# Altium footprint library BHI360.PcbLib: 3 footprints
Each footprint in its own frame and in the unit in brackets; x right, y up, seen from the top. Pads: shape width x height; smd on the part's side, far side on the other; paste and mask are expansions set on the pad; w line width, h text height; cw(c..) or ccw(c..) is an arc to the next point about the centre after c.
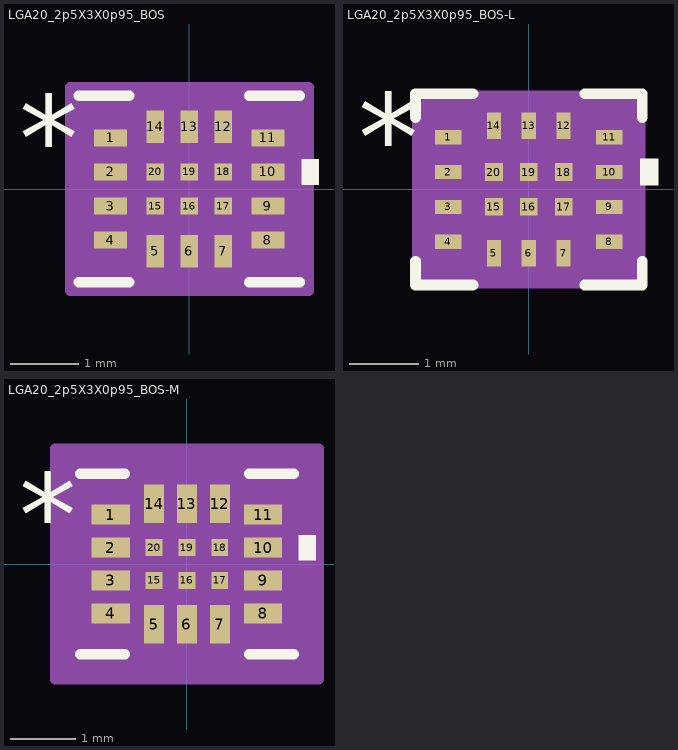
[diagram p0: the footprints below, top view; thin cyan lines are the x and y axes]

## LGA20_2p5X3X0p95_BOS [mil]
pads (20):
  rect 19x10 smd paste+0 mask+0: 1(-45.5,29.53) 2(-45.5,9.84) 3(-45.5,-9.84) 4(-45.5,-29.53) 8(45.5,-29.53) 9(45.5,-9.84) 10(45.5,9.84) 11(45.5,29.53)
  rect 10x19 smd paste+0 mask+0: 5(-19.68,-36) 6(0,-36) 7(19.68,-36) 12(19.68,36) 13(0,36) 14(-19.68,36)
  rect 10x10 smd paste+0 mask+0: 15(-19.68,-9.84) 16(0,-9.84) 17(19.69,-9.84) 18(19.68,9.84) 19(0,9.84) 20(-19.68,9.84)
Top Overlay:
  region: 65,17.34 75,17.34 75,2.34 65,2.34
  lines w6: -64,-54 -34.65,-54 ; -64,54 -34.65,54 ; 34.65,-54 64,-54 ; 34.65,54 64,54
  text "*" at -98.5,4.53 h50
Mechanical 13:
  lines w1: -59,-1 -9,49 ; -59,-49 59,-49 59,49 -59,49 -59,-49 ; -59,-34.53 -59,-24.53 -55,-24.53 -55,-34.53 -59,-34.53 ; -59,-14.84 -59,-4.84 -55,-4.84 -55,-14.84 -59,-14.84 ; -59,4.84 -59,14.84 -55,14.84 -55,4.84 -59,4.84 ; -59,24.53 -59,34.53 -55,34.53 -55,24.53 -59,24.53 ; -24.68,-49 -14.69,-49 -14.69,-45.5 -24.68,-45.5 -24.68,-49 ; -24.68,45.5 -14.69,45.5 -14.69,49 -24.68,49 -24.68,45.5 ; -5,-49 5,-49 5,-45.5 -5,-45.5 -5,-49 ; -5,45.5 5,45.5 5,49 -5,49 -5,45.5 ; 14.69,-49 24.68,-49 24.68,-45.5 14.69,-45.5 14.69,-49 ; 14.69,45.5 24.68,45.5 24.68,49 14.69,49 14.69,45.5 ; 55,-34.53 59,-34.53 59,-24.53 55,-24.53 55,-34.53 ; 55,-14.84 59,-14.84 59,-4.84 55,-4.84 55,-14.84 ; 55,4.84 59,4.84 59,14.84 55,14.84 55,4.84 ; 55,24.53 59,24.53 59,34.53 55,34.53 55,24.53
  text "*" at -17.5,4.53 h50
Mechanical 15:
  region: -34.69,-59 -69,-59 -69,-44.53 -69,44.53 -69,59 -34.69,59 34.69,59 69,59 69,44.53 69,-44.53 69,-59 34.69,-59
  lines w6: -69,-44.53 -69,-59 -34.69,-59 ; -69,-44.53 -69,-44.53 ; -69,-44.53 -69,44.53 ; -69,44.53 -69,44.53 ; -69,44.53 -69,59 -34.69,59 ; -34.69,-59 34.69,-59 ; -34.69,-59 -34.69,-59 ; -34.69,59 -34.69,59 ; -34.69,59 34.69,59 ; 34.69,-59 69,-59 69,-44.53 ; 34.69,-59 34.69,-59 ; 34.69,59 34.69,59 ; 34.69,59 69,59 69,44.53 ; 69,-44.53 69,44.53 ; 69,-44.53 69,-44.53 ; 69,44.53 69,44.53
3D body "LGA20_2p5X3X0p95_BOS.step": height 39.09, standoff 0, extent -59.02,-49.02 59.02,49.02

## LGA20_2p5X3X0p95_BOS-L [mil]
pads (20):
  rect 15x8 smd paste+0 mask+0: 1(-45.5,29.53) 2(-45.5,9.84) 3(-45.5,-9.84) 4(-45.5,-29.53) 8(45.5,-29.53) 9(45.5,-9.84) 10(45.5,9.84) 11(45.5,29.53)
  rect 8x15 smd paste+0 mask+0: 5(-19.68,-36) 6(0,-36) 7(19.68,-36) 12(19.68,36) 13(0,36) 14(-19.68,36)
  rect 10x10 smd paste+0 mask+0: 15(-19.68,-9.84) 16(0,-9.84) 17(19.69,-9.84) 18(19.68,9.84) 19(0,9.84) 20(-19.68,9.84)
Top Overlay:
  region: 63,17.34 73,17.34 73,2.34 63,2.34
  lines w6: -64,-40.64 -64,-54 -31.52,-54 ; -64,40.64 -64,54 -31.52,54 ; 31.52,-54 64,-54 64,-40.64 ; 31.52,54 64,54 64,40.64
  text "*" at -96.5,4.53 h50
Mechanical 13:
  lines w1: -59,-1 -9,49 ; -59,-49 59,-49 59,49 -59,49 -59,-49 ; -59,-34.53 -59,-24.53 -55,-24.53 -55,-34.53 -59,-34.53 ; -59,-14.84 -59,-4.84 -55,-4.84 -55,-14.84 -59,-14.84 ; -59,4.84 -59,14.84 -55,14.84 -55,4.84 -59,4.84 ; -59,24.53 -59,34.53 -55,34.53 -55,24.53 -59,24.53 ; -24.68,-49 -14.69,-49 -14.69,-45.5 -24.68,-45.5 -24.68,-49 ; -24.68,45.5 -14.69,45.5 -14.69,49 -24.68,49 -24.68,45.5 ; -5,-49 5,-49 5,-45.5 -5,-45.5 -5,-49 ; -5,45.5 5,45.5 5,49 -5,49 -5,45.5 ; 14.69,-49 24.68,-49 24.68,-45.5 14.69,-45.5 14.69,-49 ; 14.69,45.5 24.68,45.5 24.68,49 14.69,49 14.69,45.5 ; 55,-34.53 59,-34.53 59,-24.53 55,-24.53 55,-34.53 ; 55,-14.84 59,-14.84 59,-4.84 55,-4.84 55,-14.84 ; 55,4.84 59,4.84 59,14.84 55,14.84 55,4.84 ; 55,24.53 59,24.53 59,34.53 55,34.53 55,24.53
  text "*" at -19.5,4.53 h50
Mechanical 15:
  region: -27.68,-53 -63,-53 -63,-37.53 -63,37.53 -63,53 -27.68,53 27.68,53 63,53 63,37.53 63,-37.53 63,-53 27.68,-53
  lines w6: -63,-37.53 -63,-53 -27.68,-53 ; -63,-37.53 -63,-37.53 ; -63,-37.53 -63,37.53 ; -63,37.53 -63,37.53 ; -63,37.53 -63,53 -27.68,53 ; -27.68,-53 27.68,-53 ; -27.68,-53 -27.68,-53 ; -27.68,53 -27.68,53 ; -27.68,53 27.68,53 ; 27.68,-53 63,-53 63,-37.53 ; 27.68,-53 27.68,-53 ; 27.68,53 27.68,53 ; 27.68,53 63,53 63,37.53 ; 63,-37.53 63,37.53 ; 63,-37.53 63,-37.53 ; 63,37.53 63,37.53
3D body "LGA20_2p5X3X0p95_BOS.step": height 39.09, standoff 0, extent -59.02,-49.02 59.02,49.02

## LGA20_2p5X3X0p95_BOS-M [mil]
pads (20):
  rect 23x12 smd paste+0 mask+0: 1(-45.5,29.53) 2(-45.5,9.84) 3(-45.5,-9.84) 4(-45.5,-29.53) 8(45.5,-29.53) 9(45.5,-9.84) 10(45.5,9.84) 11(45.5,29.53)
  rect 12x23 smd paste+0 mask+0: 5(-19.68,-36) 6(0,-36) 7(19.68,-36) 12(19.68,36) 13(0,36) 14(-19.68,36)
  rect 10x10 smd paste+0 mask+0: 15(-19.68,-9.84) 16(0,-9.84) 17(19.69,-9.84) 18(19.68,9.84) 19(0,9.84) 20(-19.68,9.84)
Top Overlay:
  region: 67,17.34 77,17.34 77,2.34 67,2.34
  lines w6: -64,-54 -37.06,-54 ; -64,54 -37.06,54 ; 37.06,-54 64,-54 ; 37.06,54 64,54
  text "*" at -100.5,4.53 h50
Mechanical 13:
  lines w1: -59,-1 -9,49 ; -59,-49 59,-49 59,49 -59,49 -59,-49 ; -59,-34.53 -59,-24.53 -55,-24.53 -55,-34.53 -59,-34.53 ; -59,-14.84 -59,-4.84 -55,-4.84 -55,-14.84 -59,-14.84 ; -59,4.84 -59,14.84 -55,14.84 -55,4.84 -59,4.84 ; -59,24.53 -59,34.53 -55,34.53 -55,24.53 -59,24.53 ; -24.68,-49 -14.69,-49 -14.69,-45.5 -24.68,-45.5 -24.68,-49 ; -24.68,45.5 -14.69,45.5 -14.69,49 -24.68,49 -24.68,45.5 ; -5,-49 5,-49 5,-45.5 -5,-45.5 -5,-49 ; -5,45.5 5,45.5 5,49 -5,49 -5,45.5 ; 14.69,-49 24.68,-49 24.68,-45.5 14.69,-45.5 14.69,-49 ; 14.69,45.5 24.68,45.5 24.68,49 14.69,49 14.69,45.5 ; 55,-34.53 59,-34.53 59,-24.53 55,-24.53 55,-34.53 ; 55,-14.84 59,-14.84 59,-4.84 55,-4.84 55,-14.84 ; 55,4.84 59,4.84 59,14.84 55,14.84 55,4.84 ; 55,24.53 59,24.53 59,34.53 55,34.53 55,24.53
  text "*" at -15.5,4.53 h50
Mechanical 15:
  region: -45.69,-69 -79,-69 -79,-55.53 -79,55.53 -79,69 -45.69,69 45.69,69 79,69 79,55.53 79,-55.53 79,-69 45.69,-69
  lines w6: -79,-55.53 -79,-69 -45.69,-69 ; -79,-55.53 -79,-55.53 ; -79,-55.53 -79,55.53 ; -79,55.53 -79,55.53 ; -79,55.53 -79,69 -45.69,69 ; -45.69,-69 45.69,-69 ; -45.69,-69 -45.69,-69 ; -45.69,69 -45.69,69 ; -45.69,69 45.69,69 ; 45.69,-69 79,-69 79,-55.53 ; 45.69,-69 45.69,-69 ; 45.69,69 45.69,69 ; 45.69,69 79,69 79,55.53 ; 79,-55.53 79,55.53 ; 79,-55.53 79,-55.53 ; 79,55.53 79,55.53
3D body "LGA20_2p5X3X0p95_BOS.step": height 39.09, standoff 0, extent -59.02,-49.02 59.02,49.02